# Altium footprint library TMC5160-TA.PcbLib: 3 footprints
Each footprint in its own frame and in the unit in brackets; x right, y up, seen from the top. Pads: shape width x height; smd on the part's side, far side on the other; paste and mask are expansions set on the pad; w line width, h text height; cw(c..) or ccw(c..) is an arc to the next point about the centre after c.
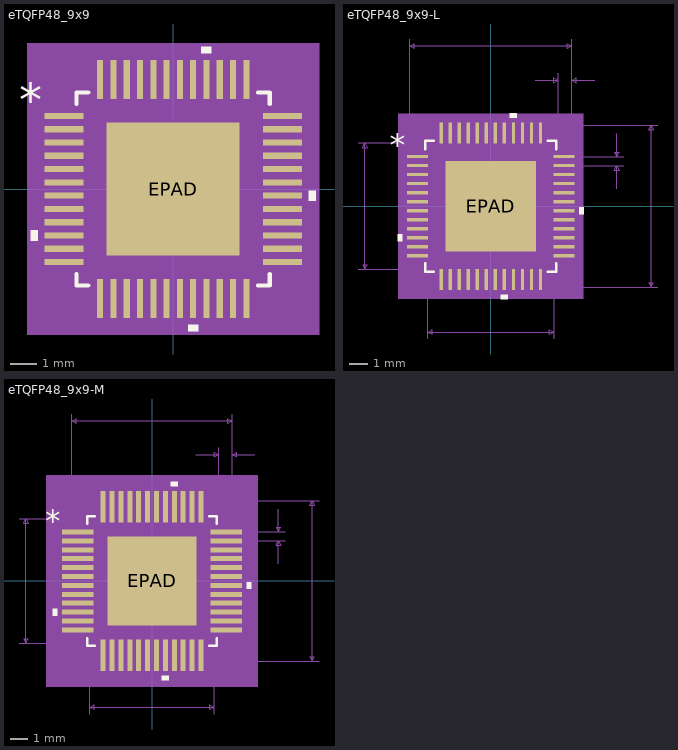
[diagram p0: the footprints below, top view; thin cyan lines are the x and y axes]

## eTQFP48_9x9 [mil]
pads (49):
  rect 58x9 smd paste+0 mask+0: 1(-162,108.27) 2(-162,88.58) 3(-162,68.9) 4(-162,49.21) 5(-162,29.53) 6(-162,9.84) 7(-162,-9.84) 8(-162,-29.53) 9(-162,-49.21) 10(-162,-68.9) 11(-162,-88.58) 12(-162,-108.27) 25(162,-108.27) 26(162,-88.58) 27(162,-68.9) 28(162,-49.21) 29(162,-29.53) 30(162,-9.84) 31(162,9.84) 32(162,29.53) 33(162,49.21) 34(162,68.9) 35(162,88.58) 36(162,108.27)
  rect 9x58 smd paste+0 mask+0: 13(-108.27,-162) 14(-88.58,-162) 15(-68.9,-162) 16(-49.21,-162) 17(-29.53,-162) 18(-9.84,-162) 19(9.84,-162) 20(29.53,-162) 21(49.21,-162) 22(68.9,-162) 23(88.58,-162) 24(108.27,-162) 37(108.27,162) 38(88.58,162) 39(68.9,162) 40(49.21,162) 41(29.53,162) 42(9.84,162) 43(-9.84,162) 44(-29.53,162) 45(-49.21,162) 46(-68.9,162) 47(-88.58,162) 48(-108.27,162)
  rect 197x197 smd paste-98 mask+0: EPAD(0,0)
Top Overlay:
  region: -201,-61.4 -211,-61.4 -211,-76.4 -201,-76.4
  region: 37.03,-201 22.03,-201 22.03,-211 37.03,-211
  region: 201,-2.34 211,-2.34 211,-17.34 201,-17.34
  region: 56.71,201 41.71,201 41.71,211 56.71,211
  lines w6: -143,-125.87 -143,-143 -125.87,-143 ; -143,125.87 -143,143 -125.87,143 ; 125.87,-143 143,-143 143,-125.87 ; 125.87,143 143,143 143,125.87
  text "*" at -228.5,108.11 h50
Top Paste:
  region: -36.77,94.56 -94.56,94.56 -94.56,36.77 -36.77,36.77
  region: -36.77,28.9 -94.56,28.9 -94.56,-28.9 -36.77,-28.9
  region: -36.77,-36.77 -94.56,-36.77 -94.56,-94.56 -36.77,-94.56
  region: 28.9,94.56 -28.9,94.56 -28.9,36.77 28.9,36.77
  region: 28.9,28.9 -28.9,28.9 -28.9,-28.9 28.9,-28.9
  region: 28.9,-36.77 -28.9,-36.77 -28.9,-94.56 28.9,-94.56
  region: 94.56,94.56 36.77,94.56 36.77,36.77 94.56,36.77
  region: 94.56,28.9 36.77,28.9 36.77,-28.9 94.56,-28.9
  region: 94.56,-36.77 36.77,-36.77 36.77,-94.56 94.56,-94.56
Mechanical 5:
  region: 216,-216 -216,-216 -216,216 216,216
Mechanical 13:
  drawing of 197 lines, arcs and shapes, not listed
  text "*" at -135.5,93.11 h50
Mechanical 15:
  region: -122.77,-148 -148,-148 -148,-122.77 -201,-122.77 -201,122.77 -148,122.77 -148,148 -122.77,148 -122.77,201 122.77,201 122.77,148 148,148 148,122.77 201,122.77 201,-122.77 148,-122.77 148,-148 122.77,-148 122.77,-201 -122.77,-201
  lines w6: -201,-122.77 -148,-122.77 -148,-148 -122.77,-148 -122.77,-201 122.77,-201 122.77,-148 148,-148 148,-122.77 201,-122.77 201,122.77 148,122.77 148,148 122.77,148 122.77,201 -122.77,201 -122.77,148 -148,148 -148,122.77 -201,122.77 -201,-122.77
3D body "eTQFP48_9x9.step": height 47.09, standoff -2.01, extent -177,-177 177.01,177.01
3D body: height 10, standoff 0, extent 0,0 10,10

## eTQFP48_9x9-L [mil]
pads (49):
  rect 46x7 smd paste+0 mask+0: 1(-160,108.27) 2(-160,88.58) 3(-160,68.9) 4(-160,49.21) 5(-160,29.53) 6(-160,9.84) 7(-160,-9.84) 8(-160,-29.53) 9(-160,-49.21) 10(-160,-68.9) 11(-160,-88.58) 12(-160,-108.27) 25(160,-108.27) 26(160,-88.58) 27(160,-68.9) 28(160,-49.21) 29(160,-29.53) 30(160,-9.84) 31(160,9.84) 32(160,29.53) 33(160,49.21) 34(160,68.9) 35(160,88.58) 36(160,108.27)
  rect 7x46 smd paste+0 mask+0: 13(-108.27,-160) 14(-88.58,-160) 15(-68.9,-160) 16(-49.21,-160) 17(-29.53,-160) 18(-9.84,-160) 19(9.84,-160) 20(29.53,-160) 21(49.21,-160) 22(68.9,-160) 23(88.58,-160) 24(108.27,-160) 37(108.27,160) 38(88.58,160) 39(68.9,160) 40(49.21,160) 41(29.53,160) 42(9.84,160) 43(-9.84,160) 44(-29.53,160) 45(-49.21,160) 46(-68.9,160) 47(-88.58,160) 48(-108.27,160)
  rect 197x197 smd paste-98 mask+0: EPAD(0,0)
Top Overlay:
  region: -193,-61.4 -203,-61.4 -203,-76.4 -193,-76.4
  region: 37.03,-193 22.03,-193 22.03,-203 37.03,-203
  region: 193,-2.34 203,-2.34 203,-17.34 193,-17.34
  region: 56.71,193 41.71,193 41.71,203 56.71,203
  lines w6: -143,-124.87 -143,-143 -124.87,-143 ; -143,124.87 -143,143 -124.87,143 ; 124.87,-143 143,-143 143,-124.87 ; 124.87,143 143,143 143,124.87
  text "*" at -220.5,108.11 h50
Top Paste:
  region: -36.77,94.56 -94.56,94.56 -94.56,36.77 -36.77,36.77
  region: -36.77,28.9 -94.56,28.9 -94.56,-28.9 -36.77,-28.9
  region: -36.77,-36.77 -94.56,-36.77 -94.56,-94.56 -36.77,-94.56
  region: 28.9,94.56 -28.9,94.56 -28.9,36.77 28.9,36.77
  region: 28.9,28.9 -28.9,28.9 -28.9,-28.9 28.9,-28.9
  region: 28.9,-36.77 -28.9,-36.77 -28.9,-94.56 28.9,-94.56
  region: 94.56,94.56 36.77,94.56 36.77,36.77 94.56,36.77
  region: 94.56,28.9 36.77,28.9 36.77,-28.9 94.56,-28.9
  region: 94.56,-36.77 36.77,-36.77 36.77,-94.56 94.56,-94.56
Mechanical 5:
  region: 202,-202 -202,-202 -202,202 202,202
Mechanical 7:
  lines w1: -290,-138 -108.27,-138 ; -290,138 -108.27,138 ; -177,108.27 -177,365 ; -138,-290 -138,-108.27 ; 97,275 147,275 ; 108.27,-177 365,-177 ; 108.27,177 365,177 ; 138,-290 138,-108.27 ; 147,108.27 147,290 ; 160,88.58 290,88.58 ; 160,108.27 290,108.27 ; 177,290 177,108.27 177,365 ; 227,275 177,275 ; 275,38.58 275,88.58 ; 275,158.27 275,108.27 ; -275,-138 -275,138 ; -275,-138 -280,-128 -270,-128 -275,-138 ; -275,138 -280,128 -270,128 -275,138 ; -177,350 177,350 ; -177,350 -167,355 -167,345 -177,350 ; -138,-275 138,-275 ; -138,-275 -128,-270 -128,-280 -138,-275 ; 138,-275 128,-270 128,-280 138,-275 ; 147,275 137,280 137,270 147,275 ; 177,275 187,280 187,270 177,275 ; 177,350 167,355 167,345 177,350 ; 275,88.58 270,78.58 280,78.58 275,88.58 ; 275,108.27 270,118.27 280,118.27 275,108.27 ; 350,-177 350,177 ; 350,-177 345,-167 355,-167 350,-177 ; 350,177 345,167 355,167 350,177
  text "Default Horiz Padstyle: RX7Y46D0T" at -412.5,-425 h50
  text "Default Vert Padstyle: RX7Y46D0T" at -400,-485 h50
  text "Heat Tab Padstyle: RX197Y197D0T" at -387.5,-545 h50
  text "Alt 1 Padstyle: OX60Y90D30P" at -337.5,-665 h50
  text "Alt 2 Padstyle: OX90Y60D30P" at -337.5,-725 h50
  text "0.02in/0.5mm" at 295,85.93 h25
  text "0.03in/0.762mm" at 74.5,295 h25
  text "0.354in/8.992mm" at -93.75,370 h25
  text "0.276in/7.01mm" at -87.5,-320 h25
  text "0.276in/7.01mm" at -470,-12.5 h25
  text "0.354in/8.992mm" at 370,-12.5 h25
Mechanical 13:
  drawing of 197 lines, arcs and shapes, not listed
  text "*" at -135.5,93.11 h50
Mechanical 15:
  region: -115.77,-142 -142,-142 -142,-115.77 -187,-115.77 -187,115.77 -142,115.77 -142,142 -115.77,142 -115.77,187 115.77,187 115.77,142 142,142 142,115.77 187,115.77 187,-115.77 142,-115.77 142,-142 115.77,-142 115.77,-187 -115.77,-187
  lines w6: -187,-115.77 -142,-115.77 -142,-142 -115.77,-142 -115.77,-187 115.77,-187 115.77,-142 142,-142 142,-115.77 187,-115.77 187,115.77 142,115.77 142,142 115.77,142 115.77,187 -115.77,187 -115.77,142 -142,142 -142,115.77 -187,115.77 -187,-115.77
3D body: height 10, standoff 0, extent 0,0 10,10
3D body "eTQFP48_9x9-L.step": height 47.09, standoff -2.01, extent -177,-177 177.01,177.01

## eTQFP48_9x9-M [mil]
pads (49):
  rect 70x11 smd paste+0 mask+0: 1(-164,108.27) 2(-164,88.58) 3(-164,68.9) 4(-164,49.21) 5(-164,29.53) 6(-164,9.84) 7(-164,-9.84) 8(-164,-29.53) 9(-164,-49.21) 10(-164,-68.9) 11(-164,-88.58) 12(-164,-108.27) 25(164,-108.27) 26(164,-88.58) 27(164,-68.9) 28(164,-49.21) 29(164,-29.53) 30(164,-9.84) 31(164,9.84) 32(164,29.53) 33(164,49.21) 34(164,68.9) 35(164,88.58) 36(164,108.27)
  rect 11x70 smd paste+0 mask+0: 13(-108.27,-164) 14(-88.58,-164) 15(-68.9,-164) 16(-49.21,-164) 17(-29.53,-164) 18(-9.84,-164) 19(9.84,-164) 20(29.53,-164) 21(49.21,-164) 22(68.9,-164) 23(88.58,-164) 24(108.27,-164) 37(108.27,164) 38(88.58,164) 39(68.9,164) 40(49.21,164) 41(29.53,164) 42(9.84,164) 43(-9.84,164) 44(-29.53,164) 45(-49.21,164) 46(-68.9,164) 47(-88.58,164) 48(-108.27,164)
  rect 197x197 smd paste-98 mask+0: EPAD(0,0)
Top Overlay:
  region: -209,-61.4 -219,-61.4 -219,-76.4 -209,-76.4
  region: 37.03,-209 22.03,-209 22.03,-219 37.03,-219
  region: 209,-2.34 219,-2.34 219,-17.34 209,-17.34
  region: 56.71,209 41.71,209 41.71,219 56.71,219
  lines w6: -143,-126.87 -143,-143 -126.87,-143 ; -143,126.87 -143,143 -126.87,143 ; 126.87,-143 143,-143 143,-126.87 ; 126.87,143 143,143 143,126.87
  text "*" at -236.5,108.11 h50
Top Paste:
  region: -36.77,94.56 -94.56,94.56 -94.56,36.77 -36.77,36.77
  region: -36.77,28.9 -94.56,28.9 -94.56,-28.9 -36.77,-28.9
  region: -36.77,-36.77 -94.56,-36.77 -94.56,-94.56 -36.77,-94.56
  region: 28.9,94.56 -28.9,94.56 -28.9,36.77 28.9,36.77
  region: 28.9,28.9 -28.9,28.9 -28.9,-28.9 28.9,-28.9
  region: 28.9,-36.77 -28.9,-36.77 -28.9,-94.56 28.9,-94.56
  region: 94.56,94.56 36.77,94.56 36.77,36.77 94.56,36.77
  region: 94.56,28.9 36.77,28.9 36.77,-28.9 94.56,-28.9
  region: 94.56,-36.77 36.77,-36.77 36.77,-94.56 94.56,-94.56
Mechanical 5:
  region: 234,-234 -234,-234 -234,234 234,234
Mechanical 7:
  lines w1: -294,-138 -108.27,-138 ; -294,138 -108.27,138 ; -177,108.27 -177,369 ; -138,-294 -138,-108.27 ; 97,279 147,279 ; 108.27,-177 369,-177 ; 108.27,177 369,177 ; 138,-294 138,-108.27 ; 147,108.27 147,294 ; 164,88.58 294,88.58 ; 164,108.27 294,108.27 ; 177,294 177,108.27 177,369 ; 227,279 177,279 ; 279,38.58 279,88.58 ; 279,158.27 279,108.27 ; -279,-138 -279,138 ; -279,-138 -284,-128 -274,-128 -279,-138 ; -279,138 -284,128 -274,128 -279,138 ; -177,354 177,354 ; -177,354 -167,359 -167,349 -177,354 ; -138,-279 138,-279 ; -138,-279 -128,-274 -128,-284 -138,-279 ; 138,-279 128,-274 128,-284 138,-279 ; 147,279 137,284 137,274 147,279 ; 177,279 187,284 187,274 177,279 ; 177,354 167,359 167,349 177,354 ; 279,88.58 274,78.58 284,78.58 279,88.58 ; 279,108.27 274,118.27 284,118.27 279,108.27 ; 354,-177 354,177 ; 354,-177 349,-167 359,-167 354,-177 ; 354,177 349,167 359,167 354,177
  text "Default Horiz Padstyle: RX11Y70D0T" at -425,-429 h50
  text "Default Vert Padstyle: RX11Y70D0T" at -412.5,-489 h50
  text "Heat Tab Padstyle: RX197Y197D0T" at -387.5,-549 h50
  text "Alt 1 Padstyle: OX60Y90D30P" at -337.5,-669 h50
  text "Alt 2 Padstyle: OX90Y60D30P" at -337.5,-729 h50
  text "0.02in/0.5mm" at 299,85.93 h25
  text "0.03in/0.762mm" at 74.5,299 h25
  text "0.354in/8.992mm" at -93.75,374 h25
  text "0.276in/7.01mm" at -87.5,-324 h25
  text "0.276in/7.01mm" at -474,-12.5 h25
  text "0.354in/8.992mm" at 374,-12.5 h25
Mechanical 13:
  drawing of 197 lines, arcs and shapes, not listed
  text "*" at -135.5,93.11 h50
Mechanical 15:
  region: -133.77,-158 -158,-158 -158,-133.77 -219,-133.77 -219,133.77 -158,133.77 -158,158 -133.77,158 -133.77,219 133.77,219 133.77,158 158,158 158,133.77 219,133.77 219,-133.77 158,-133.77 158,-158 133.77,-158 133.77,-219 -133.77,-219
  lines w6: -219,-133.77 -158,-133.77 -158,-158 -133.77,-158 -133.77,-219 133.77,-219 133.77,-158 158,-158 158,-133.77 219,-133.77 219,133.77 158,133.77 158,158 133.77,158 133.77,219 -133.77,219 -133.77,158 -158,158 -158,133.77 -219,133.77 -219,-133.77
3D body "eTQFP48_9x9-M.step": height 47.09, standoff -2.01, extent -177,-177 177.01,177.02
3D body: height 10, standoff 0, extent 0,0 10,10